# Altium schematic symbol library LM335Z.SchLib: 1 symbol
Pins are listed as number, name and electrical type; pins without a type are passive.

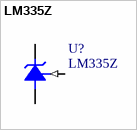
[diagram p0: symbol LM335Z]

## LM335Z
designator U?
Adjustable Precision Zener Shunt Regulator, 3-pin SOT-23
pins: 1 ADJ (in), 2 V+, 3 V-